# Altium schematic symbol library LDO_REG.SchLib: 1 symbol
Pins are listed as number, name and electrical type; pins without a type are passive.

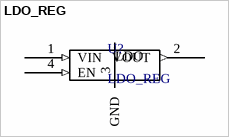
[diagram p0: symbol LDO_REG]

## LDO_REG
designator U?
LDO regulator symbol
pins: 1 VIN (in), 2 VOUT (out), 3 GND (power), 4 EN (in)
text: LDO